# Altium integrated library 1N4148WT.IntLib: 1 symbol
Pins are listed as number, name and electrical type; pins without a type are passive.

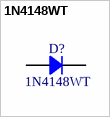
[diagram p0: symbol 1N4148WT]

## 1N4148WT
designator D?
High Conductance Fast Switching Diode, 75 V, -55 to 150 degC, 2-Pin SOD523F, RoHS; Manufacturer: Fairchild Semiconductor; BVR (IR: 5 uA)=75 V Min.; IR (VR: 75 V)=5 uA Max.; VF: 1 V Max.; CO: 4 pF Max.; ComponentLink1Description: Manufacturer URL; ComponentLink2Description: Datasheet; DatasheetVersion: Rev. A2; ComponentLink1URL: http://www.fairchildsemi.com/; ComponentLink2URL: http://www.fairchildsemi.com/ds/1N/1N4148WT.pdf; Temperature Range: -55 to 150 degC; Mounting Technology: Surface Mount; PackageDescription: 2-Pin Surface Mount Device, Body 1.2 x 0.8 mm, Height 0.7 mm; RoHS: TRUE; PackageReference: SOD-523F-2; PartNumber: 1N4148WT
footprint FAIR-SOD-523F-2_V
pins: 1, 2